# EAGLE library part TB9051FTG (library TB9051FTG)
PWM type single channel H-Bridge DC brushed motor driver for automotive use Source: Datasheet <https://toshiba.semicon-storage.com/ap-en/semiconductor/product/automotive-devices/detail.TB9051FTG.html>
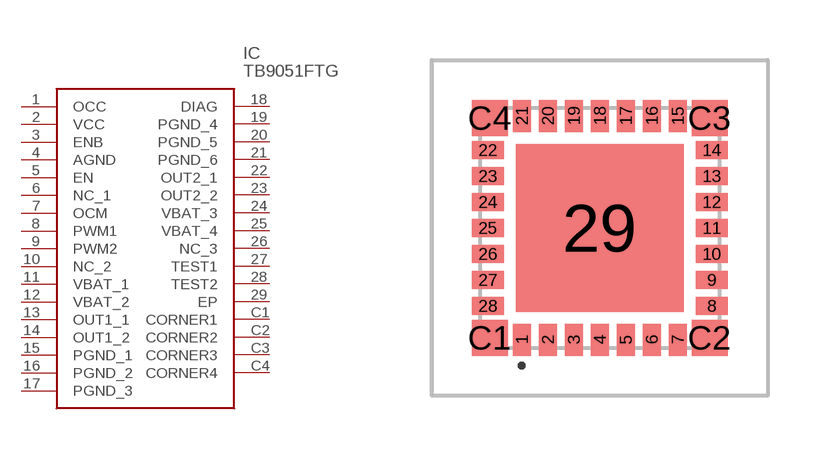
[diagram p0: symbol with the pads of TB9051FTG; footprint TB9051FTG]

Designator prefix IC

## TB9051FTG (Description: PWM type single channel H-Bridge DC brushed motor driver for automotive use; Height: 1.8mm; Manufacturer_Name: Toshiba; Manufacturer_Part_Number: TB9051FTG)  [TB9051FTG]
1  OCC
2  VCC
3  ENB
4  AGND
5  EN
6  NC_1
7  OCM
8  PWM1
9  PWM2
10  NC_2
11  VBAT_1
12  VBAT_2
13  OUT1_1
14  OUT1_2
15  PGND_1
16  PGND_2
17  PGND_3
18  DIAG
19  PGND_4
20  PGND_5
21  PGND_6
22  OUT2_1
23  OUT2_2
24  VBAT_3
25  VBAT_4
26  NC_3
27  TEST1
28  TEST2
29  EP
C1  CORNER1
C2  CORNER2
C3  CORNER3
C4  CORNER4

## Footprint TB9051FTG (pad centres in mm)
TB9051FTG-6
smd 0.45 x 0.8: 1 -1.95,-2.8; 2 -1.3,-2.8; 3 -0.65,-2.8; 4 0,-2.8; 5 0.65,-2.8; 6 1.3,-2.8; 7 1.95,-2.8; 15 1.95,2.8; 16 1.3,2.8; 17 0.65,2.8; 18 0,2.8; 19 -0.65,2.8; 20 -1.3,2.8; 21 -1.95,2.8
smd 0.8 x 0.45: 8 2.8,-1.95; 9 2.8,-1.3; 10 2.8,-0.65; 11 2.8,0; 12 2.8,0.65; 13 2.8,1.3; 14 2.8,1.95; 22 -2.8,1.95; 23 -2.8,1.3; 24 -2.8,0.65; 25 -2.8,0; 26 -2.8,-0.65; 27 -2.8,-1.3; 28 -2.8,-1.95
smd 4.2 x 4.2: 29 0,0
smd 0.9 x 0.9: C1 -2.75,-2.75; C2 2.75,-2.75; C3 2.75,2.75; C4 -2.75,2.75